# EAGLE library part 1456501-CON (library SACC-DSI-(MF)S-5CON-L180)
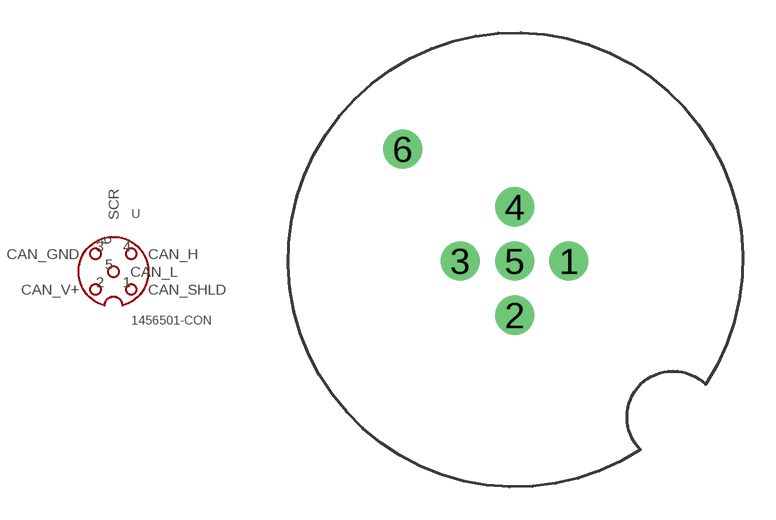
[diagram p1: symbol with the pads of SACC-DSI-FS-5CON-L180; footprint SACC-DSI-FS-5CON-L180]

Designator prefix -

## 1456501-CON  [SACC-DSI-FS-5CON-L180]
1  CAN_SHLD
2  CAN_V+
3  CAN_GND
4  CAN_H
5  CAN_L
6  SCR

## Footprint SACC-DSI-FS-5CON-L180 (pad centres in mm)
Phoenix Contact 5-pin CAN bus connector SACC-DSI-FS-5CON-L180/SH VT - 1456501 Product page <https://www.phoenixcontact.com/us/products/1456501>
drill 1.2: 1 2.5,0; 2 0,-2.5; 3 -2.5,0; 4 0,2.5; 5 0,0; 6 -5.162,5.162